# Altium integrated library Linear Technology Power Management System Supervisor, Monitor and Control.IntLib: 1611 symbols (part 42 of 100)
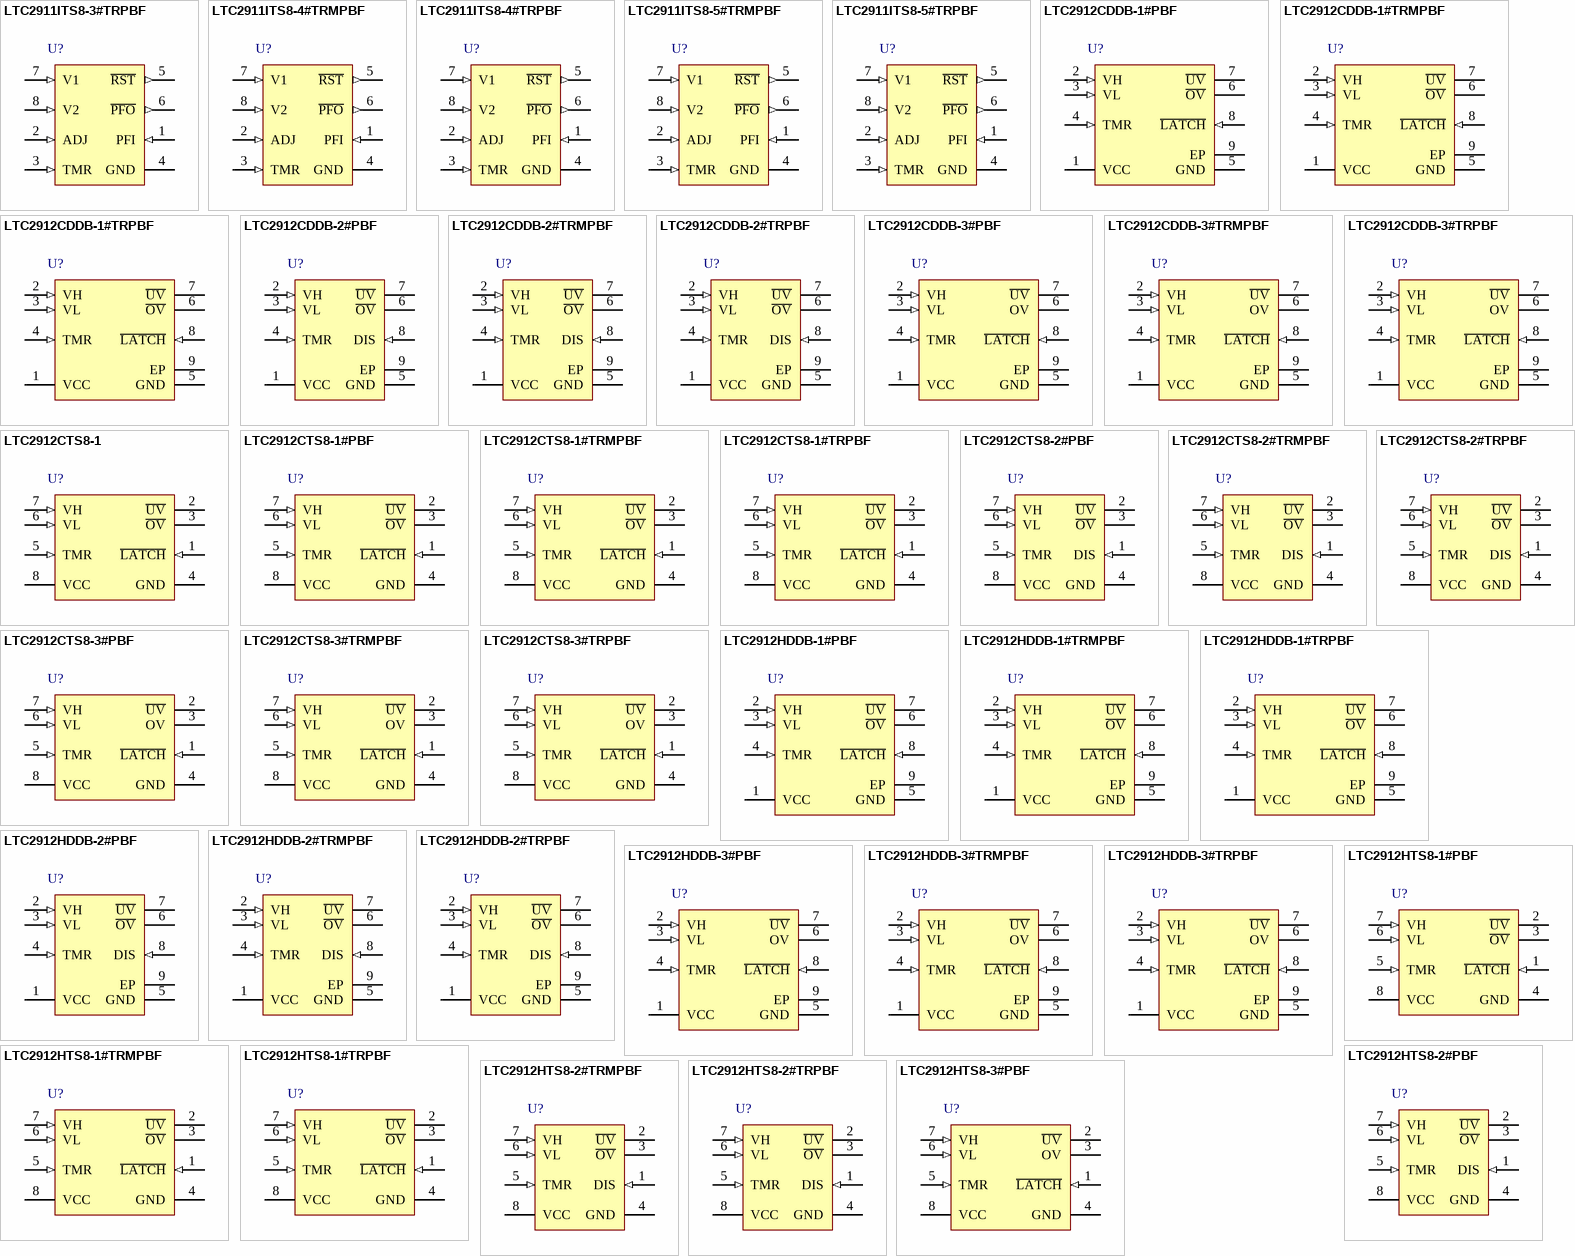
[diagram p86: symbols LTC2911ITS8-3#TRPBF to LTC2912HTS8-3#PBF]

## LTC2912CTS8-2#PBF
designator U?
Single UV/OV Voltage Monitor, 8-pin SOT23 (TS8-8), 0 to 70 degC, Pb-Free; Manufacturer: Linear Technology; PartNumber: LTC2912CTS8-2#PBF; Number of Supplies(#): 1; DatasheetVersion: Rev. A; PackageVersion: Rev. A, 08/2010; PackageReference: TS8-8; PackageDescription: 8-Pin Plastic TSOT-23, Body 2.9 x 1.63 mm, Pitch 0.65 mm; Supplier 1: Farnell; Supplier Part Number 1: 2295419; Supplier 2: Newark; Supplier Part Number 2: 78T3036; RoHS: TRUE; Mounting Technology: Surface Mount; Code_JEDEC: MO-193; ComponentLink1Description: Manufacturer URL; ComponentLink1URL: http://www.linear.com/; ComponentLink2Description: Datasheet; ComponentLink2URL: http://cds.linear.com/docs/en/datasheet/2912fa.pdf; ComponentLink3Description: Package Specification; ComponentLink3URL: http://cds.linear.com/docs/en/packaging/SOT_8_05-08-1637.pdf
footprint LT-TS8-8-TSOT-23_V (SOT23, 8-Leads, Body 2.9x1.75mm, Pitch 0.65mm)
pins: 1 DIS (in) "Output Disable Input. Disables the O\V\ and U\V\ output pins. When DIS is pulled high, the O\V\ and U\V\ pins are not asserted except during a UVLO condition. Pin has a weak (2uA) internal pull-down to GND. Leave pin open if (See Datasheet)", 2 ~{UV} (oc) "Undervoltage Logic Output. Asserts low when the VH input voltage is below threshold. Held low for a programmed delay time after the VH input is valid. Pin has a weak pull-up to VCC and may be pulled above VCC using an (See Datasheet)", 3 ~{OV} (oc) "Overvoltage Logic Output. Asserts high with a weak internal pull-up to VCC when the VL input is above threshold. Latches high. May be pulled above VCC using an external pull-up. Leave pin open if unused.", 4 GND (power) "Device Ground.", 5 TMR (in) "Reset Delay Timer. Attach an external capacitor (CTMR) of at least 10pF to GND to set a reset delay time of 9ms/nF. A 1nF capacitor will generate an 8.5ms reset delay time. Tie pin to VCC to bypass timer.", 6 VL (in) "Voltage Low Input. When the voltage on this pin is above 0.5V, an overvoltage condition is triggered. Tie pin to GND if unused.", 7 VH (in) "Voltage High Input. When the voltage on this pin is below 0.5V, an undervoltage condition is triggered. Tie pin to VCC if unused.", 8 VCC (power) "Supply Voltage. Bypass this pin to GND with a 0.1uF (or greater) capacitor. Operates as a direct supply input for voltages up to 6V. Operates as a shunt regulator for supply voltages greater than 6V and should have a (See Datasheet)"

## LTC2912CTS8-2#TRMPBF
designator U?
Single UV/OV Voltage Monitor, 8-pin SOT23 (TS8-8), 0 to 70 degC, Pb-Free, Mini Tape and Reel; Manufacturer: Linear Technology; PartNumber: LTC2912CTS8-2#TRMPBF; Number of Supplies(#): 1; DatasheetVersion: Rev. A; PackageVersion: Rev. A, 08/2010; PackageReference: TS8-8; PackageDescription: 8-Pin Plastic TSOT-23, Body 2.9 x 1.63 mm, Pitch 0.65 mm; Supplier 1: Digi-Key; Supplier Part Number 1: LTC2912CTS8-2#TRMPBFTR-ND; Supplier 2: Digi-Key; Supplier Part Number 2: LTC2912CTS8-2#TRMPBFCT-ND; Supplier 3: Digi-Key; Supplier Part Number 3: LTC2912CTS8-2#TRMPBFDKR-ND; Supplier 4: Newark; Supplier Part Number 4: 56M6852; Packing: Mini Tape and Reel; RoHS: TRUE; Mounting Technology: Surface Mount; Code_JEDEC: MO-193; ComponentLink1Description: Manufacturer URL; ComponentLink1URL: http://www.linear.com/; ComponentLink2Description: Datasheet; ComponentLink2URL: http://cds.linear.com/docs/en/datasheet/2912fa.pdf; ComponentLink3Description: Package Specification; ComponentLink3URL: http://cds.linear.com/docs/en/packaging/SOT_8_05-08-1637.pdf
footprint LT-TS8-8-TSOT-23_V (SOT23, 8-Leads, Body 2.9x1.75mm, Pitch 0.65mm)
pins: 1 DIS (in) "Output Disable Input. Disables the O\V\ and U\V\ output pins. When DIS is pulled high, the O\V\ and U\V\ pins are not asserted except during a UVLO condition. Pin has a weak (2uA) internal pull-down to GND. Leave pin open if (See Datasheet)", 2 ~{UV} (oc) "Undervoltage Logic Output. Asserts low when the VH input voltage is below threshold. Held low for a programmed delay time after the VH input is valid. Pin has a weak pull-up to VCC and may be pulled above VCC using an (See Datasheet)", 3 ~{OV} (oc) "Overvoltage Logic Output. Asserts high with a weak internal pull-up to VCC when the VL input is above threshold. Latches high. May be pulled above VCC using an external pull-up. Leave pin open if unused.", 4 GND (power) "Device Ground.", 5 TMR (in) "Reset Delay Timer. Attach an external capacitor (CTMR) of at least 10pF to GND to set a reset delay time of 9ms/nF. A 1nF capacitor will generate an 8.5ms reset delay time. Tie pin to VCC to bypass timer.", 6 VL (in) "Voltage Low Input. When the voltage on this pin is above 0.5V, an overvoltage condition is triggered. Tie pin to GND if unused.", 7 VH (in) "Voltage High Input. When the voltage on this pin is below 0.5V, an undervoltage condition is triggered. Tie pin to VCC if unused.", 8 VCC (power) "Supply Voltage. Bypass this pin to GND with a 0.1uF (or greater) capacitor. Operates as a direct supply input for voltages up to 6V. Operates as a shunt regulator for supply voltages greater than 6V and should have a (See Datasheet)"

## LTC2912CTS8-2#TRPBF
designator U?
Single UV/OV Voltage Monitor, 8-pin SOT23 (TS8-8), 0 to 70 degC, Pb-Free, Tape and Reel; Manufacturer: Linear Technology; PartNumber: LTC2912CTS8-2#TRPBF; Number of Supplies(#): 1; DatasheetVersion: Rev. A; PackageVersion: Rev. A, 08/2010; PackageReference: TS8-8; PackageDescription: 8-Pin Plastic TSOT-23, Body 2.9 x 1.63 mm, Pitch 0.65 mm; Supplier 1: Digi-Key; Supplier Part Number 1: LTC2912CTS8-2#TRPBF-ND; Supplier 2: Newark; Supplier Part Number 2: 56M6853; Packing: Tape and Reel; RoHS: TRUE; Mounting Technology: Surface Mount; Code_JEDEC: MO-193; ComponentLink1Description: Manufacturer URL; ComponentLink1URL: http://www.linear.com/; ComponentLink2Description: Datasheet; ComponentLink2URL: http://cds.linear.com/docs/en/datasheet/2912fa.pdf; ComponentLink3Description: Package Specification; ComponentLink3URL: http://cds.linear.com/docs/en/packaging/SOT_8_05-08-1637.pdf
footprint LT-TS8-8-TSOT-23_V (SOT23, 8-Leads, Body 2.9x1.75mm, Pitch 0.65mm)
pins: 1 DIS (in) "Output Disable Input. Disables the O\V\ and U\V\ output pins. When DIS is pulled high, the O\V\ and U\V\ pins are not asserted except during a UVLO condition. Pin has a weak (2uA) internal pull-down to GND. Leave pin open if (See Datasheet)", 2 ~{UV} (oc) "Undervoltage Logic Output. Asserts low when the VH input voltage is below threshold. Held low for a programmed delay time after the VH input is valid. Pin has a weak pull-up to VCC and may be pulled above VCC using an (See Datasheet)", 3 ~{OV} (oc) "Overvoltage Logic Output. Asserts high with a weak internal pull-up to VCC when the VL input is above threshold. Latches high. May be pulled above VCC using an external pull-up. Leave pin open if unused.", 4 GND (power) "Device Ground.", 5 TMR (in) "Reset Delay Timer. Attach an external capacitor (CTMR) of at least 10pF to GND to set a reset delay time of 9ms/nF. A 1nF capacitor will generate an 8.5ms reset delay time. Tie pin to VCC to bypass timer.", 6 VL (in) "Voltage Low Input. When the voltage on this pin is above 0.5V, an overvoltage condition is triggered. Tie pin to GND if unused.", 7 VH (in) "Voltage High Input. When the voltage on this pin is below 0.5V, an undervoltage condition is triggered. Tie pin to VCC if unused.", 8 VCC (power) "Supply Voltage. Bypass this pin to GND with a 0.1uF (or greater) capacitor. Operates as a direct supply input for voltages up to 6V. Operates as a shunt regulator for supply voltages greater than 6V and should have a (See Datasheet)"

## LTC2912CTS8-3#PBF
designator U?
Single UV/OV Voltage Monitor, 8-pin SOT23 (TS8-8), 0 to 70 degC, Pb-Free; Manufacturer: Linear Technology; PartNumber: LTC2912CTS8-3#PBF; Number of Supplies(#): 1; DatasheetVersion: Rev. A; PackageVersion: Rev. A, 08/2010; PackageReference: TS8-8; PackageDescription: 8-Pin Plastic TSOT-23, Body 2.9 x 1.63 mm, Pitch 0.65 mm; RoHS: TRUE; Mounting Technology: Surface Mount; Code_JEDEC: MO-193; ComponentLink1Description: Manufacturer URL; ComponentLink1URL: http://www.linear.com/; ComponentLink2Description: Datasheet; ComponentLink2URL: http://cds.linear.com/docs/en/datasheet/2912fa.pdf; ComponentLink3Description: Package Specification; ComponentLink3URL: http://cds.linear.com/docs/en/packaging/SOT_8_05-08-1637.pdf
footprint LT-TS8-8-TSOT-23_V (SOT23, 8-Leads, Body 2.9x1.75mm, Pitch 0.65mm)
pins: 1 ~{LATCH} (in) "OV/O\V\ Latch Clear/Bypass Input. When pulled high, OV/O\V\ latch is cleared. While held high, OV/O\V\ has a similar delay and output characteristic as U\V\.", 2 ~{UV} (oc) "Undervoltage Logic Output. Asserts low when the VH input voltage is below threshold. Held low for a programmed delay time after the VH input is valid. Pin has a weak pull-up to VCC and may be pulled above VCC using an (See Datasheet)", 3 OV (oc) "Overvoltage Logic Output. Asserts high with a weak internal pull-up to VCC when the VL input is above threshold. Latches high. May be pulled above VCC using an external pull-up. Leave pin open if unused.", 4 GND (power) "Device Ground.", 5 TMR (in) "Reset Delay Timer. Attach an external capacitor (CTMR) of at least 10pF to GND to set a reset delay time of 9ms/nF. A 1nF capacitor will generate an 8.5ms reset delay time. Tie pin to VCC to bypass timer.", 6 VL (in) "Voltage Low Input. When the voltage on this pin is above 0.5V, an overvoltage condition is triggered. Tie pin to GND if unused.", 7 VH (in) "Voltage High Input. When the voltage on this pin is below 0.5V, an undervoltage condition is triggered. Tie pin to VCC if unused.", 8 VCC (power) "Supply Voltage. Bypass this pin to GND with a 0.1uF (or greater) capacitor. Operates as a direct supply input for voltages up to 6V. Operates as a shunt regulator for supply voltages greater than 6V and should have a (See Datasheet)"

## LTC2912CTS8-3#TRMPBF
designator U?
Single UV/OV Voltage Monitor, 8-pin SOT23 (TS8-8), 0 to 70 degC, Pb-Free, Mini Tape and Reel; Manufacturer: Linear Technology; PartNumber: LTC2912CTS8-3#TRMPBF; Number of Supplies(#): 1; DatasheetVersion: Rev. A; PackageVersion: Rev. A, 08/2010; PackageReference: TS8-8; PackageDescription: 8-Pin Plastic TSOT-23, Body 2.9 x 1.63 mm, Pitch 0.65 mm; Supplier 1: Digi-Key; Supplier Part Number 1: LTC2912CTS8-3#TRMPBFTR-ND; Supplier 2: Digi-Key; Supplier Part Number 2: LTC2912CTS8-3#TRMPBFCT-ND; Supplier 3: Digi-Key; Supplier Part Number 3: LTC2912CTS8-3#TRMPBFDKR-ND; Packing: Mini Tape and Reel; RoHS: TRUE; Mounting Technology: Surface Mount; Code_JEDEC: MO-193; ComponentLink1Description: Manufacturer URL; ComponentLink1URL: http://www.linear.com/; ComponentLink2Description: Datasheet; ComponentLink2URL: http://cds.linear.com/docs/en/datasheet/2912fa.pdf; ComponentLink3Description: Package Specification; ComponentLink3URL: http://cds.linear.com/docs/en/packaging/SOT_8_05-08-1637.pdf
footprint LT-TS8-8-TSOT-23_V (SOT23, 8-Leads, Body 2.9x1.75mm, Pitch 0.65mm)
pins: 1 ~{LATCH} (in) "OV/O\V\ Latch Clear/Bypass Input. When pulled high, OV/O\V\ latch is cleared. While held high, OV/O\V\ has a similar delay and output characteristic as U\V\.", 2 ~{UV} (oc) "Undervoltage Logic Output. Asserts low when the VH input voltage is below threshold. Held low for a programmed delay time after the VH input is valid. Pin has a weak pull-up to VCC and may be pulled above VCC using an (See Datasheet)", 3 OV (oc) "Overvoltage Logic Output. Asserts high with a weak internal pull-up to VCC when the VL input is above threshold. Latches high. May be pulled above VCC using an external pull-up. Leave pin open if unused.", 4 GND (power) "Device Ground.", 5 TMR (in) "Reset Delay Timer. Attach an external capacitor (CTMR) of at least 10pF to GND to set a reset delay time of 9ms/nF. A 1nF capacitor will generate an 8.5ms reset delay time. Tie pin to VCC to bypass timer.", 6 VL (in) "Voltage Low Input. When the voltage on this pin is above 0.5V, an overvoltage condition is triggered. Tie pin to GND if unused.", 7 VH (in) "Voltage High Input. When the voltage on this pin is below 0.5V, an undervoltage condition is triggered. Tie pin to VCC if unused.", 8 VCC (power) "Supply Voltage. Bypass this pin to GND with a 0.1uF (or greater) capacitor. Operates as a direct supply input for voltages up to 6V. Operates as a shunt regulator for supply voltages greater than 6V and should have a (See Datasheet)"

## LTC2912CTS8-3#TRPBF
designator U?
Single UV/OV Voltage Monitor, 8-pin SOT23 (TS8-8), 0 to 70 degC, Pb-Free, Tape and Reel; Manufacturer: Linear Technology; PartNumber: LTC2912CTS8-3#TRPBF; Number of Supplies(#): 1; DatasheetVersion: Rev. A; PackageVersion: Rev. A, 08/2010; PackageReference: TS8-8; PackageDescription: 8-Pin Plastic TSOT-23, Body 2.9 x 1.63 mm, Pitch 0.65 mm; Supplier 1: Digi-Key; Supplier Part Number 1: LTC2912CTS8-3#TRPBF-ND; Packing: Tape and Reel; RoHS: TRUE; Mounting Technology: Surface Mount; Code_JEDEC: MO-193; ComponentLink1Description: Manufacturer URL; ComponentLink1URL: http://www.linear.com/; ComponentLink2Description: Datasheet; ComponentLink2URL: http://cds.linear.com/docs/en/datasheet/2912fa.pdf; ComponentLink3Description: Package Specification; ComponentLink3URL: http://cds.linear.com/docs/en/packaging/SOT_8_05-08-1637.pdf
footprint LT-TS8-8-TSOT-23_V (SOT23, 8-Leads, Body 2.9x1.75mm, Pitch 0.65mm)
pins: 1 ~{LATCH} (in) "OV/O\V\ Latch Clear/Bypass Input. When pulled high, OV/O\V\ latch is cleared. While held high, OV/O\V\ has a similar delay and output characteristic as U\V\.", 2 ~{UV} (oc) "Undervoltage Logic Output. Asserts low when the VH input voltage is below threshold. Held low for a programmed delay time after the VH input is valid. Pin has a weak pull-up to VCC and may be pulled above VCC using an (See Datasheet)", 3 OV (oc) "Overvoltage Logic Output. Asserts high with a weak internal pull-up to VCC when the VL input is above threshold. Latches high. May be pulled above VCC using an external pull-up. Leave pin open if unused.", 4 GND (power) "Device Ground.", 5 TMR (in) "Reset Delay Timer. Attach an external capacitor (CTMR) of at least 10pF to GND to set a reset delay time of 9ms/nF. A 1nF capacitor will generate an 8.5ms reset delay time. Tie pin to VCC to bypass timer.", 6 VL (in) "Voltage Low Input. When the voltage on this pin is above 0.5V, an overvoltage condition is triggered. Tie pin to GND if unused.", 7 VH (in) "Voltage High Input. When the voltage on this pin is below 0.5V, an undervoltage condition is triggered. Tie pin to VCC if unused.", 8 VCC (power) "Supply Voltage. Bypass this pin to GND with a 0.1uF (or greater) capacitor. Operates as a direct supply input for voltages up to 6V. Operates as a shunt regulator for supply voltages greater than 6V and should have a (See Datasheet)"

## LTC2912HDDB-1#PBF
designator U?
Single UV/OV Voltage Monitor, 8-pin SON (DDB-8), -40 to 125 degC, Pb-Free; Manufacturer: Linear Technology; PartNumber: LTC2912HDDB-1#PBF; Number of Supplies(#): 1; DatasheetVersion: Rev. A; PackageVersion: Rev. B, 06/2010; PackageReference: DDB-8; PackageDescription: 8-Pin Plastic DFN, Body 3 x 2 mm, Pitch 0.5 mm; RoHS: TRUE; Mounting Technology: Surface Mount; Code_JEDEC: MO-229; ComponentLink1Description: Manufacturer URL; ComponentLink1URL: http://www.linear.com/; ComponentLink2Description: Datasheet; ComponentLink2URL: http://cds.linear.com/docs/en/datasheet/2912fa.pdf; ComponentLink3Description: Package Specification; ComponentLink3URL: http://cds.linear.com/docs/en/packaging/DFN_8_05-08-1702.pdf
footprint LT-DDB-8_V (SON, 8-Leads, Body 3x2mm, Pitch 0.5mm, Thermal Pad 2.2x0.61mm)
pins: 1 VCC (power) "Supply Voltage. Bypass this pin to GND with a 0.1uF (or greater) capacitor. Operates as a direct supply input for voltages up to 6V. Operates as a shunt regulator for supply voltages greater than 6V and should have a (See Datasheet)", 2 VH (in) "Voltage High Input. When the voltage on this pin is below 0.5V, an undervoltage condition is triggered. Tie pin to VCC if unused.", 3 VL (in) "Voltage Low Input. When the voltage on this pin is above 0.5V, an overvoltage condition is triggered. Tie pin to GND if unused.", 4 TMR (in) "Reset Delay Timer. Attach an external capacitor (CTMR) of at least 10pF to GND to set a reset delay time of 9ms/nF. A 1nF capacitor will generate an 8.5ms reset delay time. Tie pin to VCC to bypass timer.", 5 GND (power) "Device Ground.", 6 ~{OV} (oc) "Overvoltage Logic Output. Asserts low when the VL input voltage is above threshold. Latched low (LTC2912-1). Held low for programmed delay time after VL input is valid (LTC2912-2). Pin has a weak pull-up to VCC and may be (See Datasheet)", 7 ~{UV} (oc) "Undervoltage Logic Output. Asserts low when the VH input voltage is below threshold. Held low for a programmed delay time after the VH input is valid. Pin has a weak pull-up to VCC and may be pulled above VCC using an (See Datasheet)", 8 ~{LATCH} (in) "OV/O\V\ Latch Clear/Bypass Input. When pulled high, OV/O\V\ latch is cleared. While held high, OV/O\V\ has a similar delay and output characteristic as U\V\.", 9 EP (power) "Exposed Pad may be left open or connected to device ground."

## LTC2912HDDB-1#TRMPBF
designator U?
Single UV/OV Voltage Monitor, 8-pin SON (DDB-8), -40 to 125 degC, Pb-Free, Mini Tape and Reel; Manufacturer: Linear Technology; PartNumber: LTC2912HDDB-1#TRMPBF; Number of Supplies(#): 1; DatasheetVersion: Rev. A; PackageVersion: Rev. B, 06/2010; PackageReference: DDB-8; PackageDescription: 8-Pin Plastic DFN, Body 3 x 2 mm, Pitch 0.5 mm; Supplier 1: Digi-Key; Supplier Part Number 1: LTC2912HDDB-1#TRMPBF-ND; Packing: Mini Tape and Reel; RoHS: TRUE; Mounting Technology: Surface Mount; Code_JEDEC: MO-229; ComponentLink1Description: Manufacturer URL; ComponentLink1URL: http://www.linear.com/; ComponentLink2Description: Datasheet; ComponentLink2URL: http://cds.linear.com/docs/en/datasheet/2912fa.pdf; ComponentLink3Description: Package Specification; ComponentLink3URL: http://cds.linear.com/docs/en/packaging/DFN_8_05-08-1702.pdf
footprint LT-DDB-8_V (SON, 8-Leads, Body 3x2mm, Pitch 0.5mm, Thermal Pad 2.2x0.61mm)
pins: 1 VCC (power) "Supply Voltage. Bypass this pin to GND with a 0.1uF (or greater) capacitor. Operates as a direct supply input for voltages up to 6V. Operates as a shunt regulator for supply voltages greater than 6V and should have a (See Datasheet)", 2 VH (in) "Voltage High Input. When the voltage on this pin is below 0.5V, an undervoltage condition is triggered. Tie pin to VCC if unused.", 3 VL (in) "Voltage Low Input. When the voltage on this pin is above 0.5V, an overvoltage condition is triggered. Tie pin to GND if unused.", 4 TMR (in) "Reset Delay Timer. Attach an external capacitor (CTMR) of at least 10pF to GND to set a reset delay time of 9ms/nF. A 1nF capacitor will generate an 8.5ms reset delay time. Tie pin to VCC to bypass timer.", 5 GND (power) "Device Ground.", 6 ~{OV} (oc) "Overvoltage Logic Output. Asserts low when the VL input voltage is above threshold. Latched low (LTC2912-1). Held low for programmed delay time after VL input is valid (LTC2912-2). Pin has a weak pull-up to VCC and may be (See Datasheet)", 7 ~{UV} (oc) "Undervoltage Logic Output. Asserts low when the VH input voltage is below threshold. Held low for a programmed delay time after the VH input is valid. Pin has a weak pull-up to VCC and may be pulled above VCC using an (See Datasheet)", 8 ~{LATCH} (in) "OV/O\V\ Latch Clear/Bypass Input. When pulled high, OV/O\V\ latch is cleared. While held high, OV/O\V\ has a similar delay and output characteristic as U\V\.", 9 EP (power) "Exposed Pad may be left open or connected to device ground."

## LTC2912HDDB-1#TRPBF
designator U?
Single UV/OV Voltage Monitor, 8-pin SON (DDB-8), -40 to 125 degC, Pb-Free, Tape and Reel; Manufacturer: Linear Technology; PartNumber: LTC2912HDDB-1#TRPBF; Number of Supplies(#): 1; DatasheetVersion: Rev. A; PackageVersion: Rev. B, 06/2010; PackageReference: DDB-8; PackageDescription: 8-Pin Plastic DFN, Body 3 x 2 mm, Pitch 0.5 mm; Supplier 1: Digi-Key; Supplier Part Number 1: LTC2912HDDB-1#TRPBF-ND; Supplier 2: Newark; Supplier Part Number 2: 75M4477; Packing: Tape and Reel; RoHS: TRUE; Mounting Technology: Surface Mount; Code_JEDEC: MO-229; ComponentLink1Description: Manufacturer URL; ComponentLink1URL: http://www.linear.com/; ComponentLink2Description: Datasheet; ComponentLink2URL: http://cds.linear.com/docs/en/datasheet/2912fa.pdf; ComponentLink3Description: Package Specification; ComponentLink3URL: http://cds.linear.com/docs/en/packaging/DFN_8_05-08-1702.pdf
footprint LT-DDB-8_V (SON, 8-Leads, Body 3x2mm, Pitch 0.5mm, Thermal Pad 2.2x0.61mm)
pins: 1 VCC (power) "Supply Voltage. Bypass this pin to GND with a 0.1uF (or greater) capacitor. Operates as a direct supply input for voltages up to 6V. Operates as a shunt regulator for supply voltages greater than 6V and should have a (See Datasheet)", 2 VH (in) "Voltage High Input. When the voltage on this pin is below 0.5V, an undervoltage condition is triggered. Tie pin to VCC if unused.", 3 VL (in) "Voltage Low Input. When the voltage on this pin is above 0.5V, an overvoltage condition is triggered. Tie pin to GND if unused.", 4 TMR (in) "Reset Delay Timer. Attach an external capacitor (CTMR) of at least 10pF to GND to set a reset delay time of 9ms/nF. A 1nF capacitor will generate an 8.5ms reset delay time. Tie pin to VCC to bypass timer.", 5 GND (power) "Device Ground.", 6 ~{OV} (oc) "Overvoltage Logic Output. Asserts low when the VL input voltage is above threshold. Latched low (LTC2912-1). Held low for programmed delay time after VL input is valid (LTC2912-2). Pin has a weak pull-up to VCC and may be (See Datasheet)", 7 ~{UV} (oc) "Undervoltage Logic Output. Asserts low when the VH input voltage is below threshold. Held low for a programmed delay time after the VH input is valid. Pin has a weak pull-up to VCC and may be pulled above VCC using an (See Datasheet)", 8 ~{LATCH} (in) "OV/O\V\ Latch Clear/Bypass Input. When pulled high, OV/O\V\ latch is cleared. While held high, OV/O\V\ has a similar delay and output characteristic as U\V\.", 9 EP (power) "Exposed Pad may be left open or connected to device ground."

## LTC2912HDDB-2#PBF
designator U?
Single UV/OV Voltage Monitor, 8-pin SON (DDB-8), -40 to 125 degC, Pb-Free; Manufacturer: Linear Technology; PartNumber: LTC2912HDDB-2#PBF; Number of Supplies(#): 1; DatasheetVersion: Rev. A; PackageVersion: Rev. B, 06/2010; PackageReference: DDB-8; PackageDescription: 8-Pin Plastic DFN, Body 3 x 2 mm, Pitch 0.5 mm; RoHS: TRUE; Mounting Technology: Surface Mount; Code_JEDEC: MO-229; ComponentLink1Description: Manufacturer URL; ComponentLink1URL: http://www.linear.com/; ComponentLink2Description: Datasheet; ComponentLink2URL: http://cds.linear.com/docs/en/datasheet/2912fa.pdf; ComponentLink3Description: Package Specification; ComponentLink3URL: http://cds.linear.com/docs/en/packaging/DFN_8_05-08-1702.pdf
footprint LT-DDB-8_V (SON, 8-Leads, Body 3x2mm, Pitch 0.5mm, Thermal Pad 2.2x0.61mm)
pins: 1 VCC (power) "Supply Voltage. Bypass this pin to GND with a 0.1uF (or greater) capacitor. Operates as a direct supply input for voltages up to 6V. Operates as a shunt regulator for supply voltages greater than 6V and should have a (See Datasheet)", 2 VH (in) "Voltage High Input. When the voltage on this pin is below 0.5V, an undervoltage condition is triggered. Tie pin to VCC if unused.", 3 VL (in) "Voltage Low Input. When the voltage on this pin is above 0.5V, an overvoltage condition is triggered. Tie pin to GND if unused.", 4 TMR (in) "Reset Delay Timer. Attach an external capacitor (CTMR) of at least 10pF to GND to set a reset delay time of 9ms/nF. A 1nF capacitor will generate an 8.5ms reset delay time. Tie pin to VCC to bypass timer.", 5 GND (power) "Device Ground.", 6 ~{OV} (oc) "Overvoltage Logic Output. Asserts low when the VL input voltage is above threshold. Latched low (LTC2912-1). Held low for programmed delay time after VL input is valid (LTC2912-2). Pin has a weak pull-up to VCC and may be (See Datasheet)", 7 ~{UV} (oc) "Undervoltage Logic Output. Asserts low when the VH input voltage is below threshold. Held low for a programmed delay time after the VH input is valid. Pin has a weak pull-up to VCC and may be pulled above VCC using an (See Datasheet)", 8 DIS (in) "Output Disable Input. Disables the O\V\ and U\V\ output pins. When DIS is pulled high, the O\V\ and U\V\ pins are not asserted except during a UVLO condition. Pin has a weak (2uA) internal pull-down to GND. Leave pin open if (See Datasheet)", 9 EP (power) "Exposed Pad may be left open or connected to device ground."

## LTC2912HDDB-2#TRMPBF
designator U?
Single UV/OV Voltage Monitor, 8-pin SON (DDB-8), -40 to 125 degC, Pb-Free, Mini Tape and Reel; Manufacturer: Linear Technology; PartNumber: LTC2912HDDB-2#TRMPBF; Number of Supplies(#): 1; DatasheetVersion: Rev. A; PackageVersion: Rev. B, 06/2010; PackageReference: DDB-8; PackageDescription: 8-Pin Plastic DFN, Body 3 x 2 mm, Pitch 0.5 mm; Supplier 1: Digi-Key; Supplier Part Number 1: LTC2912HDDB-2#TRMPBF-ND; Packing: Mini Tape and Reel; RoHS: TRUE; Mounting Technology: Surface Mount; Code_JEDEC: MO-229; ComponentLink1Description: Manufacturer URL; ComponentLink1URL: http://www.linear.com/; ComponentLink2Description: Datasheet; ComponentLink2URL: http://cds.linear.com/docs/en/datasheet/2912fa.pdf; ComponentLink3Description: Package Specification; ComponentLink3URL: http://cds.linear.com/docs/en/packaging/DFN_8_05-08-1702.pdf
footprint LT-DDB-8_V (SON, 8-Leads, Body 3x2mm, Pitch 0.5mm, Thermal Pad 2.2x0.61mm)
pins: 1 VCC (power) "Supply Voltage. Bypass this pin to GND with a 0.1uF (or greater) capacitor. Operates as a direct supply input for voltages up to 6V. Operates as a shunt regulator for supply voltages greater than 6V and should have a (See Datasheet)", 2 VH (in) "Voltage High Input. When the voltage on this pin is below 0.5V, an undervoltage condition is triggered. Tie pin to VCC if unused.", 3 VL (in) "Voltage Low Input. When the voltage on this pin is above 0.5V, an overvoltage condition is triggered. Tie pin to GND if unused.", 4 TMR (in) "Reset Delay Timer. Attach an external capacitor (CTMR) of at least 10pF to GND to set a reset delay time of 9ms/nF. A 1nF capacitor will generate an 8.5ms reset delay time. Tie pin to VCC to bypass timer.", 5 GND (power) "Device Ground.", 6 ~{OV} (oc) "Overvoltage Logic Output. Asserts low when the VL input voltage is above threshold. Latched low (LTC2912-1). Held low for programmed delay time after VL input is valid (LTC2912-2). Pin has a weak pull-up to VCC and may be (See Datasheet)", 7 ~{UV} (oc) "Undervoltage Logic Output. Asserts low when the VH input voltage is below threshold. Held low for a programmed delay time after the VH input is valid. Pin has a weak pull-up to VCC and may be pulled above VCC using an (See Datasheet)", 8 DIS (in) "Output Disable Input. Disables the O\V\ and U\V\ output pins. When DIS is pulled high, the O\V\ and U\V\ pins are not asserted except during a UVLO condition. Pin has a weak (2uA) internal pull-down to GND. Leave pin open if (See Datasheet)", 9 EP (power) "Exposed Pad may be left open or connected to device ground."

## LTC2912HDDB-2#TRPBF
designator U?
Single UV/OV Voltage Monitor, 8-pin SON (DDB-8), -40 to 125 degC, Pb-Free, Tape and Reel; Manufacturer: Linear Technology; PartNumber: LTC2912HDDB-2#TRPBF; Number of Supplies(#): 1; DatasheetVersion: Rev. A; PackageVersion: Rev. B, 06/2010; PackageReference: DDB-8; PackageDescription: 8-Pin Plastic DFN, Body 3 x 2 mm, Pitch 0.5 mm; Supplier 1: Digi-Key; Supplier Part Number 1: LTC2912HDDB-2#TRPBF-ND; Packing: Tape and Reel; RoHS: TRUE; Mounting Technology: Surface Mount; Code_JEDEC: MO-229; ComponentLink1Description: Manufacturer URL; ComponentLink1URL: http://www.linear.com/; ComponentLink2Description: Datasheet; ComponentLink2URL: http://cds.linear.com/docs/en/datasheet/2912fa.pdf; ComponentLink3Description: Package Specification; ComponentLink3URL: http://cds.linear.com/docs/en/packaging/DFN_8_05-08-1702.pdf
footprint LT-DDB-8_V (SON, 8-Leads, Body 3x2mm, Pitch 0.5mm, Thermal Pad 2.2x0.61mm)
pins: 1 VCC (power) "Supply Voltage. Bypass this pin to GND with a 0.1uF (or greater) capacitor. Operates as a direct supply input for voltages up to 6V. Operates as a shunt regulator for supply voltages greater than 6V and should have a (See Datasheet)", 2 VH (in) "Voltage High Input. When the voltage on this pin is below 0.5V, an undervoltage condition is triggered. Tie pin to VCC if unused.", 3 VL (in) "Voltage Low Input. When the voltage on this pin is above 0.5V, an overvoltage condition is triggered. Tie pin to GND if unused.", 4 TMR (in) "Reset Delay Timer. Attach an external capacitor (CTMR) of at least 10pF to GND to set a reset delay time of 9ms/nF. A 1nF capacitor will generate an 8.5ms reset delay time. Tie pin to VCC to bypass timer.", 5 GND (power) "Device Ground.", 6 ~{OV} (oc) "Overvoltage Logic Output. Asserts low when the VL input voltage is above threshold. Latched low (LTC2912-1). Held low for programmed delay time after VL input is valid (LTC2912-2). Pin has a weak pull-up to VCC and may be (See Datasheet)", 7 ~{UV} (oc) "Undervoltage Logic Output. Asserts low when the VH input voltage is below threshold. Held low for a programmed delay time after the VH input is valid. Pin has a weak pull-up to VCC and may be pulled above VCC using an (See Datasheet)", 8 DIS (in) "Output Disable Input. Disables the O\V\ and U\V\ output pins. When DIS is pulled high, the O\V\ and U\V\ pins are not asserted except during a UVLO condition. Pin has a weak (2uA) internal pull-down to GND. Leave pin open if (See Datasheet)", 9 EP (power) "Exposed Pad may be left open or connected to device ground."

## LTC2912HDDB-3#PBF
designator U?
Single UV/OV Voltage Monitor, 8-pin SON (DDB-8), -40 to 125 degC, Pb-Free; Manufacturer: Linear Technology; PartNumber: LTC2912HDDB-3#PBF; Number of Supplies(#): 1; DatasheetVersion: Rev. A; PackageVersion: Rev. B, 06/2010; PackageReference: DDB-8; PackageDescription: 8-Pin Plastic DFN, Body 3 x 2 mm, Pitch 0.5 mm; RoHS: TRUE; Mounting Technology: Surface Mount; Code_JEDEC: MO-229; ComponentLink1Description: Manufacturer URL; ComponentLink1URL: http://www.linear.com/; ComponentLink2Description: Datasheet; ComponentLink2URL: http://cds.linear.com/docs/en/datasheet/2912fa.pdf; ComponentLink3Description: Package Specification; ComponentLink3URL: http://cds.linear.com/docs/en/packaging/DFN_8_05-08-1702.pdf
footprint LT-DDB-8_V (SON, 8-Leads, Body 3x2mm, Pitch 0.5mm, Thermal Pad 2.2x0.61mm)
pins: 1 VCC (power) "Supply Voltage. Bypass this pin to GND with a 0.1uF (or greater) capacitor. Operates as a direct supply input for voltages up to 6V. Operates as a shunt regulator for supply voltages greater than 6V and should have a (See Datasheet)", 2 VH (in) "Voltage High Input. When the voltage on this pin is below 0.5V, an undervoltage condition is triggered. Tie pin to VCC if unused.", 3 VL (in) "Voltage Low Input. When the voltage on this pin is above 0.5V, an overvoltage condition is triggered. Tie pin to GND if unused.", 4 TMR (in) "Reset Delay Timer. Attach an external capacitor (CTMR) of at least 10pF to GND to set a reset delay time of 9ms/nF. A 1nF capacitor will generate an 8.5ms reset delay time. Tie pin to VCC to bypass timer.", 5 GND (power) "Device Ground.", 6 OV (oc) "Overvoltage Logic Output. Asserts high with a weak internal pull-up to VCC when the VL input is above threshold. Latches high. May be pulled above VCC using an external pull-up. Leave pin open if unused.", 7 ~{UV} (oc) "Undervoltage Logic Output. Asserts low when the VH input voltage is below threshold. Held low for a programmed delay time after the VH input is valid. Pin has a weak pull-up to VCC and may be pulled above VCC using an (See Datasheet)", 8 ~{LATCH} (in) "OV/O\V\ Latch Clear/Bypass Input. When pulled high, OV/O\V\ latch is cleared. While held high, OV/O\V\ has a similar delay and output characteristic as U\V\.", 9 EP (power) "Exposed Pad may be left open or connected to device ground."

## LTC2912HDDB-3#TRMPBF
designator U?
Single UV/OV Voltage Monitor, 8-pin SON (DDB-8), -40 to 125 degC, Pb-Free, Mini Tape and Reel; Manufacturer: Linear Technology; PartNumber: LTC2912HDDB-3#TRMPBF; Number of Supplies(#): 1; DatasheetVersion: Rev. A; PackageVersion: Rev. B, 06/2010; PackageReference: DDB-8; PackageDescription: 8-Pin Plastic DFN, Body 3 x 2 mm, Pitch 0.5 mm; Supplier 1: Digi-Key; Supplier Part Number 1: LTC2912HDDB-3#TRMPBF-ND; Packing: Mini Tape and Reel; RoHS: TRUE; Mounting Technology: Surface Mount; Code_JEDEC: MO-229; ComponentLink1Description: Manufacturer URL; ComponentLink1URL: http://www.linear.com/; ComponentLink2Description: Datasheet; ComponentLink2URL: http://cds.linear.com/docs/en/datasheet/2912fa.pdf; ComponentLink3Description: Package Specification; ComponentLink3URL: http://cds.linear.com/docs/en/packaging/DFN_8_05-08-1702.pdf
footprint LT-DDB-8_V (SON, 8-Leads, Body 3x2mm, Pitch 0.5mm, Thermal Pad 2.2x0.61mm)
pins: 1 VCC (power) "Supply Voltage. Bypass this pin to GND with a 0.1uF (or greater) capacitor. Operates as a direct supply input for voltages up to 6V. Operates as a shunt regulator for supply voltages greater than 6V and should have a (See Datasheet)", 2 VH (in) "Voltage High Input. When the voltage on this pin is below 0.5V, an undervoltage condition is triggered. Tie pin to VCC if unused.", 3 VL (in) "Voltage Low Input. When the voltage on this pin is above 0.5V, an overvoltage condition is triggered. Tie pin to GND if unused.", 4 TMR (in) "Reset Delay Timer. Attach an external capacitor (CTMR) of at least 10pF to GND to set a reset delay time of 9ms/nF. A 1nF capacitor will generate an 8.5ms reset delay time. Tie pin to VCC to bypass timer.", 5 GND (power) "Device Ground.", 6 OV (oc) "Overvoltage Logic Output. Asserts high with a weak internal pull-up to VCC when the VL input is above threshold. Latches high. May be pulled above VCC using an external pull-up. Leave pin open if unused.", 7 ~{UV} (oc) "Undervoltage Logic Output. Asserts low when the VH input voltage is below threshold. Held low for a programmed delay time after the VH input is valid. Pin has a weak pull-up to VCC and may be pulled above VCC using an (See Datasheet)", 8 ~{LATCH} (in) "OV/O\V\ Latch Clear/Bypass Input. When pulled high, OV/O\V\ latch is cleared. While held high, OV/O\V\ has a similar delay and output characteristic as U\V\.", 9 EP (power) "Exposed Pad may be left open or connected to device ground."

## LTC2912HDDB-3#TRPBF
designator U?
Single UV/OV Voltage Monitor, 8-pin SON (DDB-8), -40 to 125 degC, Pb-Free, Tape and Reel; Manufacturer: Linear Technology; PartNumber: LTC2912HDDB-3#TRPBF; Number of Supplies(#): 1; DatasheetVersion: Rev. A; PackageVersion: Rev. B, 06/2010; PackageReference: DDB-8; PackageDescription: 8-Pin Plastic DFN, Body 3 x 2 mm, Pitch 0.5 mm; Supplier 1: Digi-Key; Supplier Part Number 1: LTC2912HDDB-3#TRPBF-ND; Packing: Tape and Reel; RoHS: TRUE; Mounting Technology: Surface Mount; Code_JEDEC: MO-229; ComponentLink1Description: Manufacturer URL; ComponentLink1URL: http://www.linear.com/; ComponentLink2Description: Datasheet; ComponentLink2URL: http://cds.linear.com/docs/en/datasheet/2912fa.pdf; ComponentLink3Description: Package Specification; ComponentLink3URL: http://cds.linear.com/docs/en/packaging/DFN_8_05-08-1702.pdf
footprint LT-DDB-8_V (SON, 8-Leads, Body 3x2mm, Pitch 0.5mm, Thermal Pad 2.2x0.61mm)
pins: 1 VCC (power) "Supply Voltage. Bypass this pin to GND with a 0.1uF (or greater) capacitor. Operates as a direct supply input for voltages up to 6V. Operates as a shunt regulator for supply voltages greater than 6V and should have a (See Datasheet)", 2 VH (in) "Voltage High Input. When the voltage on this pin is below 0.5V, an undervoltage condition is triggered. Tie pin to VCC if unused.", 3 VL (in) "Voltage Low Input. When the voltage on this pin is above 0.5V, an overvoltage condition is triggered. Tie pin to GND if unused.", 4 TMR (in) "Reset Delay Timer. Attach an external capacitor (CTMR) of at least 10pF to GND to set a reset delay time of 9ms/nF. A 1nF capacitor will generate an 8.5ms reset delay time. Tie pin to VCC to bypass timer.", 5 GND (power) "Device Ground.", 6 OV (oc) "Overvoltage Logic Output. Asserts high with a weak internal pull-up to VCC when the VL input is above threshold. Latches high. May be pulled above VCC using an external pull-up. Leave pin open if unused.", 7 ~{UV} (oc) "Undervoltage Logic Output. Asserts low when the VH input voltage is below threshold. Held low for a programmed delay time after the VH input is valid. Pin has a weak pull-up to VCC and may be pulled above VCC using an (See Datasheet)", 8 ~{LATCH} (in) "OV/O\V\ Latch Clear/Bypass Input. When pulled high, OV/O\V\ latch is cleared. While held high, OV/O\V\ has a similar delay and output characteristic as U\V\.", 9 EP (power) "Exposed Pad may be left open or connected to device ground."

## LTC2912HTS8-1#PBF
designator U?
Single UV/OV Voltage Monitor, 8-pin SOT23 (TS8-8), -40 to 125 degC, Pb-Free; Manufacturer: Linear Technology; PartNumber: LTC2912HTS8-1#PBF; Number of Supplies(#): 1; DatasheetVersion: Rev. A; PackageVersion: Rev. A, 08/2010; PackageReference: TS8-8; PackageDescription: 8-Pin Plastic TSOT-23, Body 2.9 x 1.63 mm, Pitch 0.65 mm; RoHS: TRUE; Mounting Technology: Surface Mount; Code_JEDEC: MO-193; ComponentLink1Description: Manufacturer URL; ComponentLink1URL: http://www.linear.com/; ComponentLink2Description: Datasheet; ComponentLink2URL: http://cds.linear.com/docs/en/datasheet/2912fa.pdf; ComponentLink3Description: Package Specification; ComponentLink3URL: http://cds.linear.com/docs/en/packaging/SOT_8_05-08-1637.pdf
footprint LT-TS8-8-TSOT-23_V (SOT23, 8-Leads, Body 2.9x1.75mm, Pitch 0.65mm)
pins: 1 ~{LATCH} (in) "OV/O\V\ Latch Clear/Bypass Input. When pulled high, OV/O\V\ latch is cleared. While held high, OV/O\V\ has a similar delay and output characteristic as U\V\.", 2 ~{UV} (oc) "Undervoltage Logic Output. Asserts low when the VH input voltage is below threshold. Held low for a programmed delay time after the VH input is valid. Pin has a weak pull-up to VCC and may be pulled above VCC using an (See Datasheet)", 3 ~{OV} (oc) "Overvoltage Logic Output. Asserts low when the VL input voltage is above threshold. Latched low (LTC2912-1). Held low for programmed delay time after VL input is valid (LTC2912-2). Pin has a weak pull-up to VCC and may be (See Datasheet)", 4 GND (power) "Device Ground.", 5 TMR (in) "Reset Delay Timer. Attach an external capacitor (CTMR) of at least 10pF to GND to set a reset delay time of 9ms/nF. A 1nF capacitor will generate an 8.5ms reset delay time. Tie pin to VCC to bypass timer.", 6 VL (in) "Voltage Low Input. When the voltage on this pin is above 0.5V, an overvoltage condition is triggered. Tie pin to GND if unused.", 7 VH (in) "Voltage High Input. When the voltage on this pin is below 0.5V, an undervoltage condition is triggered. Tie pin to VCC if unused.", 8 VCC (power) "Supply Voltage. Bypass this pin to GND with a 0.1uF (or greater) capacitor. Operates as a direct supply input for voltages up to 6V. Operates as a shunt regulator for supply voltages greater than 6V and should have a (See Datasheet)"

## LTC2912HTS8-1#TRMPBF
designator U?
Single UV/OV Voltage Monitor, 8-pin SOT23 (TS8-8), -40 to 125 degC, Pb-Free, Mini Tape and Reel; Manufacturer: Linear Technology; PartNumber: LTC2912HTS8-1#TRMPBF; Number of Supplies(#): 1; DatasheetVersion: Rev. A; PackageVersion: Rev. A, 08/2010; PackageReference: TS8-8; PackageDescription: 8-Pin Plastic TSOT-23, Body 2.9 x 1.63 mm, Pitch 0.65 mm; Supplier 1: Digi-Key; Supplier Part Number 1: LTC2912HTS8-1#TRMPBF-ND; Packing: Mini Tape and Reel; RoHS: TRUE; Mounting Technology: Surface Mount; Code_JEDEC: MO-193; ComponentLink1Description: Manufacturer URL; ComponentLink1URL: http://www.linear.com/; ComponentLink2Description: Datasheet; ComponentLink2URL: http://cds.linear.com/docs/en/datasheet/2912fa.pdf; ComponentLink3Description: Package Specification; ComponentLink3URL: http://cds.linear.com/docs/en/packaging/SOT_8_05-08-1637.pdf
footprint LT-TS8-8-TSOT-23_V (SOT23, 8-Leads, Body 2.9x1.75mm, Pitch 0.65mm)
pins: 1 ~{LATCH} (in) "OV/O\V\ Latch Clear/Bypass Input. When pulled high, OV/O\V\ latch is cleared. While held high, OV/O\V\ has a similar delay and output characteristic as U\V\.", 2 ~{UV} (oc) "Undervoltage Logic Output. Asserts low when the VH input voltage is below threshold. Held low for a programmed delay time after the VH input is valid. Pin has a weak pull-up to VCC and may be pulled above VCC using an (See Datasheet)", 3 ~{OV} (oc) "Overvoltage Logic Output. Asserts low when the VL input voltage is above threshold. Latched low (LTC2912-1). Held low for programmed delay time after VL input is valid (LTC2912-2). Pin has a weak pull-up to VCC and may be (See Datasheet)", 4 GND (power) "Device Ground.", 5 TMR (in) "Reset Delay Timer. Attach an external capacitor (CTMR) of at least 10pF to GND to set a reset delay time of 9ms/nF. A 1nF capacitor will generate an 8.5ms reset delay time. Tie pin to VCC to bypass timer.", 6 VL (in) "Voltage Low Input. When the voltage on this pin is above 0.5V, an overvoltage condition is triggered. Tie pin to GND if unused.", 7 VH (in) "Voltage High Input. When the voltage on this pin is below 0.5V, an undervoltage condition is triggered. Tie pin to VCC if unused.", 8 VCC (power) "Supply Voltage. Bypass this pin to GND with a 0.1uF (or greater) capacitor. Operates as a direct supply input for voltages up to 6V. Operates as a shunt regulator for supply voltages greater than 6V and should have a (See Datasheet)"

## LTC2912HTS8-1#TRPBF
designator U?
Single UV/OV Voltage Monitor, 8-pin SOT23 (TS8-8), -40 to 125 degC, Pb-Free, Tape and Reel; Manufacturer: Linear Technology; PartNumber: LTC2912HTS8-1#TRPBF; Number of Supplies(#): 1; DatasheetVersion: Rev. A; PackageVersion: Rev. A, 08/2010; PackageReference: TS8-8; PackageDescription: 8-Pin Plastic TSOT-23, Body 2.9 x 1.63 mm, Pitch 0.65 mm; Supplier 1: Digi-Key; Supplier Part Number 1: LTC2912HTS8-1#TRPBF-ND; Packing: Tape and Reel; RoHS: TRUE; Mounting Technology: Surface Mount; Code_JEDEC: MO-193; ComponentLink1Description: Manufacturer URL; ComponentLink1URL: http://www.linear.com/; ComponentLink2Description: Datasheet; ComponentLink2URL: http://cds.linear.com/docs/en/datasheet/2912fa.pdf; ComponentLink3Description: Package Specification; ComponentLink3URL: http://cds.linear.com/docs/en/packaging/SOT_8_05-08-1637.pdf
footprint LT-TS8-8-TSOT-23_V (SOT23, 8-Leads, Body 2.9x1.75mm, Pitch 0.65mm)
pins: 1 ~{LATCH} (in) "OV/O\V\ Latch Clear/Bypass Input. When pulled high, OV/O\V\ latch is cleared. While held high, OV/O\V\ has a similar delay and output characteristic as U\V\.", 2 ~{UV} (oc) "Undervoltage Logic Output. Asserts low when the VH input voltage is below threshold. Held low for a programmed delay time after the VH input is valid. Pin has a weak pull-up to VCC and may be pulled above VCC using an (See Datasheet)", 3 ~{OV} (oc) "Overvoltage Logic Output. Asserts low when the VL input voltage is above threshold. Latched low (LTC2912-1). Held low for programmed delay time after VL input is valid (LTC2912-2). Pin has a weak pull-up to VCC and may be (See Datasheet)", 4 GND (power) "Device Ground.", 5 TMR (in) "Reset Delay Timer. Attach an external capacitor (CTMR) of at least 10pF to GND to set a reset delay time of 9ms/nF. A 1nF capacitor will generate an 8.5ms reset delay time. Tie pin to VCC to bypass timer.", 6 VL (in) "Voltage Low Input. When the voltage on this pin is above 0.5V, an overvoltage condition is triggered. Tie pin to GND if unused.", 7 VH (in) "Voltage High Input. When the voltage on this pin is below 0.5V, an undervoltage condition is triggered. Tie pin to VCC if unused.", 8 VCC (power) "Supply Voltage. Bypass this pin to GND with a 0.1uF (or greater) capacitor. Operates as a direct supply input for voltages up to 6V. Operates as a shunt regulator for supply voltages greater than 6V and should have a (See Datasheet)"

## LTC2912HTS8-2#PBF
designator U?
Single UV/OV Voltage Monitor, 8-pin SOT23 (TS8-8), -40 to 125 degC, Pb-Free; Manufacturer: Linear Technology; PartNumber: LTC2912HTS8-2#PBF; Number of Supplies(#): 1; DatasheetVersion: Rev. A; PackageVersion: Rev. A, 08/2010; PackageReference: TS8-8; PackageDescription: 8-Pin Plastic TSOT-23, Body 2.9 x 1.63 mm, Pitch 0.65 mm; Supplier 1: Newark; Supplier Part Number 1: 78T3042; RoHS: TRUE; Mounting Technology: Surface Mount; Code_JEDEC: MO-193; ComponentLink1Description: Manufacturer URL; ComponentLink1URL: http://www.linear.com/; ComponentLink2Description: Datasheet; ComponentLink2URL: http://cds.linear.com/docs/en/datasheet/2912fa.pdf; ComponentLink3Description: Package Specification; ComponentLink3URL: http://cds.linear.com/docs/en/packaging/SOT_8_05-08-1637.pdf
footprint LT-TS8-8-TSOT-23_V (SOT23, 8-Leads, Body 2.9x1.75mm, Pitch 0.65mm)
pins: 1 DIS (in) "Output Disable Input. Disables the O\V\ and U\V\ output pins. When DIS is pulled high, the O\V\ and U\V\ pins are not asserted except during a UVLO condition. Pin has a weak (2uA) internal pull-down to GND. Leave pin open if (See Datasheet)", 2 ~{UV} (oc) "Undervoltage Logic Output. Asserts low when the VH input voltage is below threshold. Held low for a programmed delay time after the VH input is valid. Pin has a weak pull-up to VCC and may be pulled above VCC using an (See Datasheet)", 3 ~{OV} (oc) "Overvoltage Logic Output. Asserts high with a weak internal pull-up to VCC when the VL input is above threshold. Latches high. May be pulled above VCC using an external pull-up. Leave pin open if unused.", 4 GND (power) "Device Ground.", 5 TMR (in) "Reset Delay Timer. Attach an external capacitor (CTMR) of at least 10pF to GND to set a reset delay time of 9ms/nF. A 1nF capacitor will generate an 8.5ms reset delay time. Tie pin to VCC to bypass timer.", 6 VL (in) "Voltage Low Input. When the voltage on this pin is above 0.5V, an overvoltage condition is triggered. Tie pin to GND if unused.", 7 VH (in) "Voltage High Input. When the voltage on this pin is below 0.5V, an undervoltage condition is triggered. Tie pin to VCC if unused.", 8 VCC (power) "Supply Voltage. Bypass this pin to GND with a 0.1uF (or greater) capacitor. Operates as a direct supply input for voltages up to 6V. Operates as a shunt regulator for supply voltages greater than 6V and should have a (See Datasheet)"

## LTC2912HTS8-2#TRMPBF
designator U?
Single UV/OV Voltage Monitor, 8-pin SOT23 (TS8-8), -40 to 125 degC, Pb-Free, Mini Tape and Reel; Manufacturer: Linear Technology; PartNumber: LTC2912HTS8-2#TRMPBF; Number of Supplies(#): 1; DatasheetVersion: Rev. A; PackageVersion: Rev. A, 08/2010; PackageReference: TS8-8; PackageDescription: 8-Pin Plastic TSOT-23, Body 2.9 x 1.63 mm, Pitch 0.65 mm; Supplier 1: Digi-Key; Supplier Part Number 1: LTC2912HTS8-2#TRMPBF-ND; Supplier 2: Newark; Supplier Part Number 2: 75M4484; Packing: Mini Tape and Reel; RoHS: TRUE; Mounting Technology: Surface Mount; Code_JEDEC: MO-193; ComponentLink1Description: Manufacturer URL; ComponentLink1URL: http://www.linear.com/; ComponentLink2Description: Datasheet; ComponentLink2URL: http://cds.linear.com/docs/en/datasheet/2912fa.pdf; ComponentLink3Description: Package Specification; ComponentLink3URL: http://cds.linear.com/docs/en/packaging/SOT_8_05-08-1637.pdf
footprint LT-TS8-8-TSOT-23_V (SOT23, 8-Leads, Body 2.9x1.75mm, Pitch 0.65mm)
pins: 1 DIS (in) "Output Disable Input. Disables the O\V\ and U\V\ output pins. When DIS is pulled high, the O\V\ and U\V\ pins are not asserted except during a UVLO condition. Pin has a weak (2uA) internal pull-down to GND. Leave pin open if (See Datasheet)", 2 ~{UV} (oc) "Undervoltage Logic Output. Asserts low when the VH input voltage is below threshold. Held low for a programmed delay time after the VH input is valid. Pin has a weak pull-up to VCC and may be pulled above VCC using an (See Datasheet)", 3 ~{OV} (oc) "Overvoltage Logic Output. Asserts high with a weak internal pull-up to VCC when the VL input is above threshold. Latches high. May be pulled above VCC using an external pull-up. Leave pin open if unused.", 4 GND (power) "Device Ground.", 5 TMR (in) "Reset Delay Timer. Attach an external capacitor (CTMR) of at least 10pF to GND to set a reset delay time of 9ms/nF. A 1nF capacitor will generate an 8.5ms reset delay time. Tie pin to VCC to bypass timer.", 6 VL (in) "Voltage Low Input. When the voltage on this pin is above 0.5V, an overvoltage condition is triggered. Tie pin to GND if unused.", 7 VH (in) "Voltage High Input. When the voltage on this pin is below 0.5V, an undervoltage condition is triggered. Tie pin to VCC if unused.", 8 VCC (power) "Supply Voltage. Bypass this pin to GND with a 0.1uF (or greater) capacitor. Operates as a direct supply input for voltages up to 6V. Operates as a shunt regulator for supply voltages greater than 6V and should have a (See Datasheet)"